# Altium schematic symbol library MOSFET,N Ch,60V,20A.Schlib: 1 symbol
Pins are listed as number, name and electrical type; pins without a type are passive.

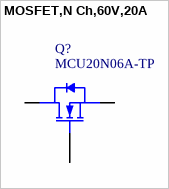
[diagram p0: symbol MOSFET,N Ch,60V,20A]

## MOSFET,N Ch,60V,20A
designator Q?, comment MCU20N06A-TP
N-Channel 60V 20A  Surface Mount D-Pak
pins: 1 G, 3 S, 4 D